# Altium schematic symbol library SMA_Connector.Schlib: 1 symbol
Pins are listed as number, name and electrical type; pins without a type are passive.

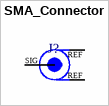
[diagram p0: symbol SMA_Connector]

## SMA_Connector
designator J?
SMA RF Connector
pins: 1 SIG, 2 GND, 3 GND
text: REF